# Altium footprint library URB_S-6WR3.PcbLib: 1 footprints
Each footprint in its own frame and in the unit in brackets; x right, y up, seen from the top. Pads: shape width x height; smd on the part's side, far side on the other; paste and mask are expansions set on the pad; w line width, h text height; cw(c..) or ccw(c..) is an arc to the next point about the centre after c.
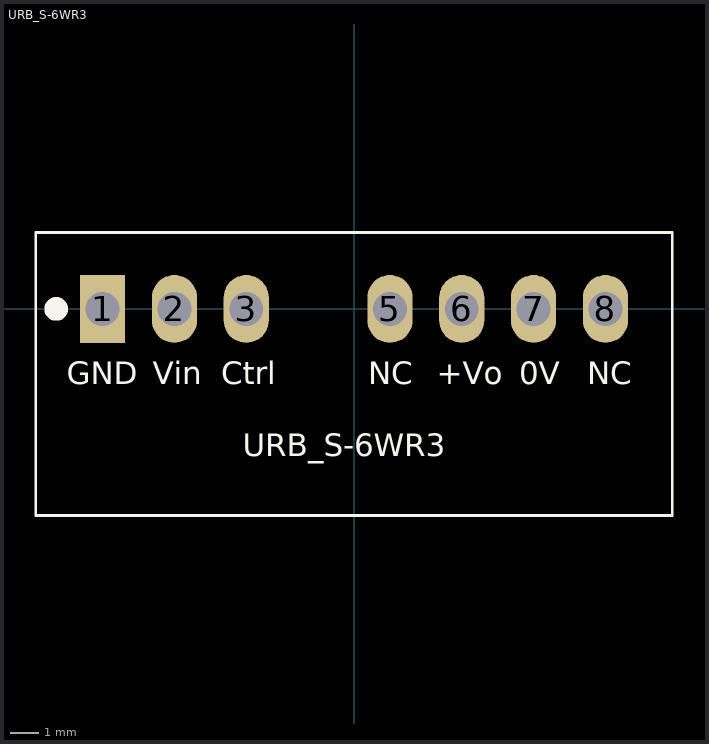
[diagram p0: the footprint, top view; thin cyan lines are the x and y axes]

## URB_S-6WR3 [mm]
pads (7):
  rect 1.6x2.4 hole 1.2: 1(-8.89,0)
  oval 1.6x2.4 hole 1.2: 2(-6.35,0) 3(-3.81,0) 5(1.27,0) 6(3.81,0) 7(6.35,0) 8(8.89,0)
Top Overlay:
  circle w0.6: c-10.531,0 r0.117
  lines w0.1: -11.25,-7.3 -11.25,2.7 11.25,2.7 11.25,-7.3 -11.25,-7.3
  text "NC" at 8.255,-2.667 h0.8
  text "Ctrl" at -4.699,-2.667 h0.8
  text "URB_S-6WR3" at -3.937,-5.207 h0.8
  text "NC" at 0.508,-2.667 h0.8
  text "0V" at 5.842,-2.667 h0.8
  text "+Vo" at 2.921,-2.667 h0.8
  text "GND" at -10.16,-2.667 h0.8
  text "Vin" at -7.112,-2.667 h0.8